# Altium footprint library Fuse501.PcbLib: 1 footprints
Each footprint in its own frame and in the unit in brackets; x right, y up, seen from the top. Pads: shape width x height; smd on the part's side, far side on the other; paste and mask are expansions set on the pad; w line width, h text height; cw(c..) or ccw(c..) is an arc to the next point about the centre after c.
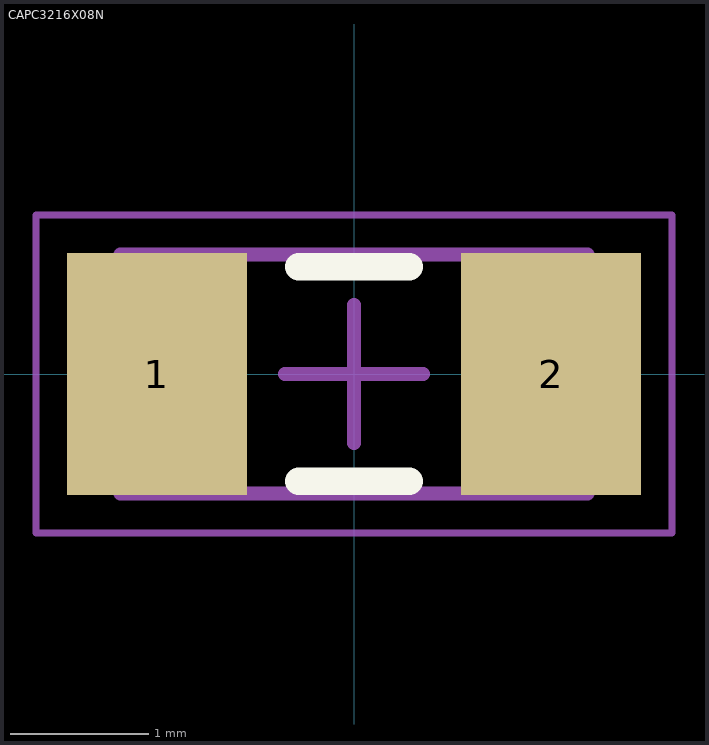
[diagram p0: the footprint, top view; thin cyan lines are the x and y axes]

## CAPC3216X08N [mm] "Chip Capacitor, 2-Leads, Body 3.20x1.58mm, IPC Medium Density"
height 0.85
pads (2):
  rect 1.3x1.75 smd: 1(-1.425,0) 2(1.425,0)
Top Overlay:
  lines w0.2: -0.4,-0.775 0.4,-0.775 ; -0.4,0.775 0.4,0.775
Mechanical 13:
  lines w0.1: -1.69,-0.865 1.69,-0.865 1.69,0.865 -1.69,0.865 -1.69,-0.865
Mechanical 15:
  lines w0.05: -2.3,-1.15 2.3,-1.15 2.3,1.15 -2.3,1.15 -2.3,-1.15
  lines w0.1: -0.5,0 0.5,0 ; 0,-0.5 0,0.5
3D body: height 0.85, standoff 0, extent 1.17,-0.865 1.69,0.865
3D body: height 0.85, standoff 0, extent -1.69,-0.865 -1.17,0.865
3D body: height 0.85, standoff 0, extent -1.17,-0.865 1.17,0.865